# EAGLE library part DWM-W006 (library dslparts)
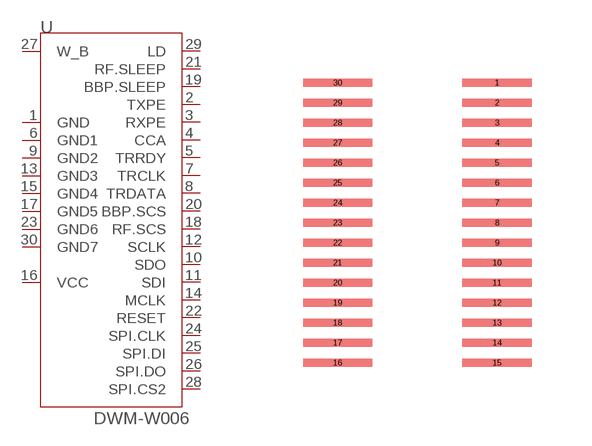
[diagram p7: symbol with the pads of DWM--W006; footprint DWM--W006]

Designator prefix -

## DWM-W006  [DWM--W006]
1  GND
2  TXPE
3  RXPE
4  CCA
5  TRRDY
6  GND1
7  TRCLK
8  TRDATA
9  GND2
10  SDO
11  SDI
12  SCLK
13  GND3
14  MCLK
15  GND4
16  VCC
17  GND5
18  RF.SCS
19  BBP.SLEEP
20  BBP.SCS
21  RF.SLEEP
22  RESET
23  GND6
24  SPI.CLK
25  SPI.DI
26  SPI.DO
27  W_B
28  SPI.CS2
29  LD
30  GND7

## Footprint DWM--W006 (pad centres in mm)
smd 1.727 x 0.203: 1 1.993,1; 2 1.993,0.5; 3 1.993,0; 4 1.993,-0.5; 5 1.993,-1; 6 1.993,-1.5; 7 1.993,-2; 8 1.993,-2.5; 9 1.993,-3; 10 1.993,-3.5; 11 1.993,-4; 12 1.993,-4.5; 13 1.993,-5; 14 1.993,-5.5; 15 1.993,-6; 16 -1.994,-6; 17 -1.994,-5.5; 18 -1.994,-5; 19 -1.994,-4.5; 20 -1.994,-4; 21 -1.994,-3.5; 22 -1.994,-3; 23 -1.994,-2.5; 24 -1.994,-2; 25 -1.994,-1.5; 26 -1.994,-1; 27 -1.994,-0.5; 28 -1.994,0; 29 -1.994,0.5; 30 -1.994,1